# Altium schematic symbol library Solderbridge.Schlib: 1 symbol
Pins are listed as number, name and electrical type; pins without a type are passive.

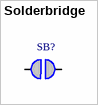
[diagram p0: symbol Solderbridge]

## Solderbridge
designator SB?
pins: 1, 2